# EAGLE library part LM2678T-5.0 (library gael)
IC, STEP-DOWN REGULATOR
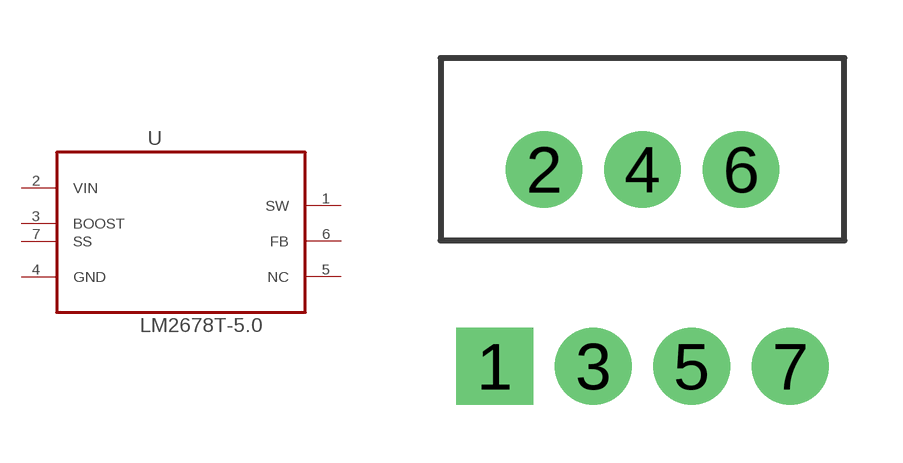
[diagram p3: symbol with the pads of TO127P457X1016X2052-7P; footprint TO127P457X1016X2052-7P]

Designator prefix U

## LM2678T-5.0 (MPN: LLM2678T-5.0; OC_FARNELL: 9778365; OC_NEWARK: 41K4208; PACKAGE: TO-220-7; SUPPLIER: NATIONAL SEMICONDUCTOR)  [TO127P457X1016X2052-7P]
1  SW  out
2  VIN  in
3  BOOST  pas
4  GND  pas
5  NC  nc
6  FB  pas
7  SS  pas

## Footprint TO127P457X1016X2052-7P (pad centres in mm)
drill 1.321 square: 1 -7.62,-11.201
drill 1.321: 2 -6.35,-6.121; 3 -5.08,-11.201; 4 -3.81,-6.121; 5 -2.54,-11.201; 6 -1.27,-6.121; 7 0,-11.201